# Altium footprint library SCHURTER_4833.2330.PcbLib: 1 footprints
Each footprint in its own frame and in the unit in brackets; x right, y up, seen from the top. Pads: shape width x height; smd on the part's side, far side on the other; paste and mask are expansions set on the pad; w line width, h text height; cw(c..) or ccw(c..) is an arc to the next point about the centre after c.
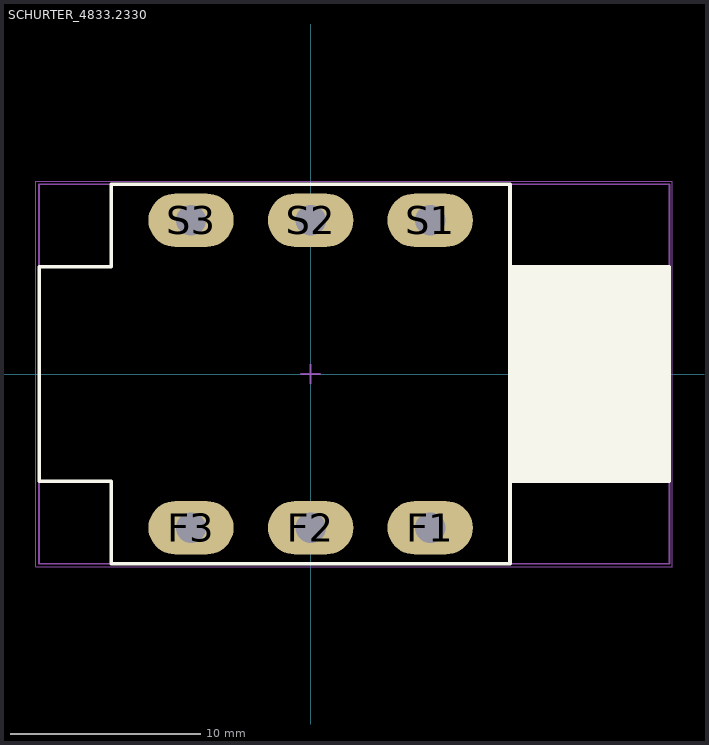
[diagram p0: the footprint, top view; thin cyan lines are the x and y axes]

## SCHURTER_4833.2330 [mm] "SCHURTER_4833.2330"
pads (6):
  oval 4.5x2.8 hole 1.6: F1(6.3,-8.1) F2(0,-8.1) F3(-6.3,-8.1) S1(6.3,8.1) S2(0,8.1) S3(-6.3,8.1)
Top Overlay:
  rectangle: 10.5,-5.65 18.9,5.65
  lines w0.2: 10.5,-5.65 18.9,-5.65 18.9,5.65 10.5,5.65 ; 10.5,-5.65 10.5,-10 -10.5,-10 -10.5,-5.65 -14.3,-5.65 -14.3,5.65 -10.5,5.65 -10.5,10 10.5,10 10.5,5.65 ; 10.5,-5.65 10.5,5.65 ; 10.5,5.65 10.5,5.65
Mechanical 13:
  lines w0.1: -14.3,-10 18.9,-10 18.9,10 -14.3,10 -14.3,-10
Mechanical 15 (Mech15):
  lines w0.05: -14.478,-10.16 -14.478,10.16 19.05,10.16 19.05,-10.16 -14.478,-10.16
  lines w0.1: -0.5,0 0.5,0 ; 0,-0.5 0,0.5
3D body: height 15.5, standoff 0, extent -14.3,-10 18.9,10